# Altium integrated library 78646-3001.IntLib: 1 symbol
Pins are listed as number, name and electrical type; pins without a type are passive.

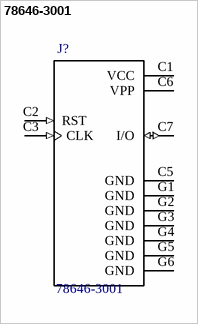
[diagram p0: symbol 78646-3001]

## 78646-3001
designator J?
Conn Micro SIM Card SKT 6 POS 2.54mm Solder RA SMD 0.5A/Contact Embossed T/R; MF: Molex; Price: None; SnapEDA_Link: https://www.snapeda.com/parts/78646-3001/Molex/view-part/?ref=snap; Availability: Unavailable; MP: 78646-3001; Package: None; Value: *
footprint *CONN_78646-3001_78646-3001(Primary)
pins: C1 VCC (power), C2 RST (in), C3 CLK (in), C5 GND (power), C6 VPP (power), C7 I/O (io), G1 GND (power), G2 GND (power), G3 GND (power), G4 GND (power), G5 GND (power), G6 GND (power)